# Altium schematic symbol library CASTELLATED.Schlib: 1 symbol
Pins are listed as number, name and electrical type; pins without a type are passive.

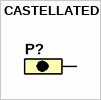
[diagram p0: symbol CASTELLATED]

## CASTELLATED
designator P?  (no BOM)
pins: 1